# Altium footprint library rcl.PCBLIB: 489 footprints (part 19 of 31)
Each footprint in its own frame and in the unit in brackets; x right, y up, seen from the top. Pads: shape width x height; smd on the part's side, far side on the other; paste and mask are expansions set on the pad; w line width, h text height; cw(c..) or ccw(c..) is an arc to the next point about the centre after c.
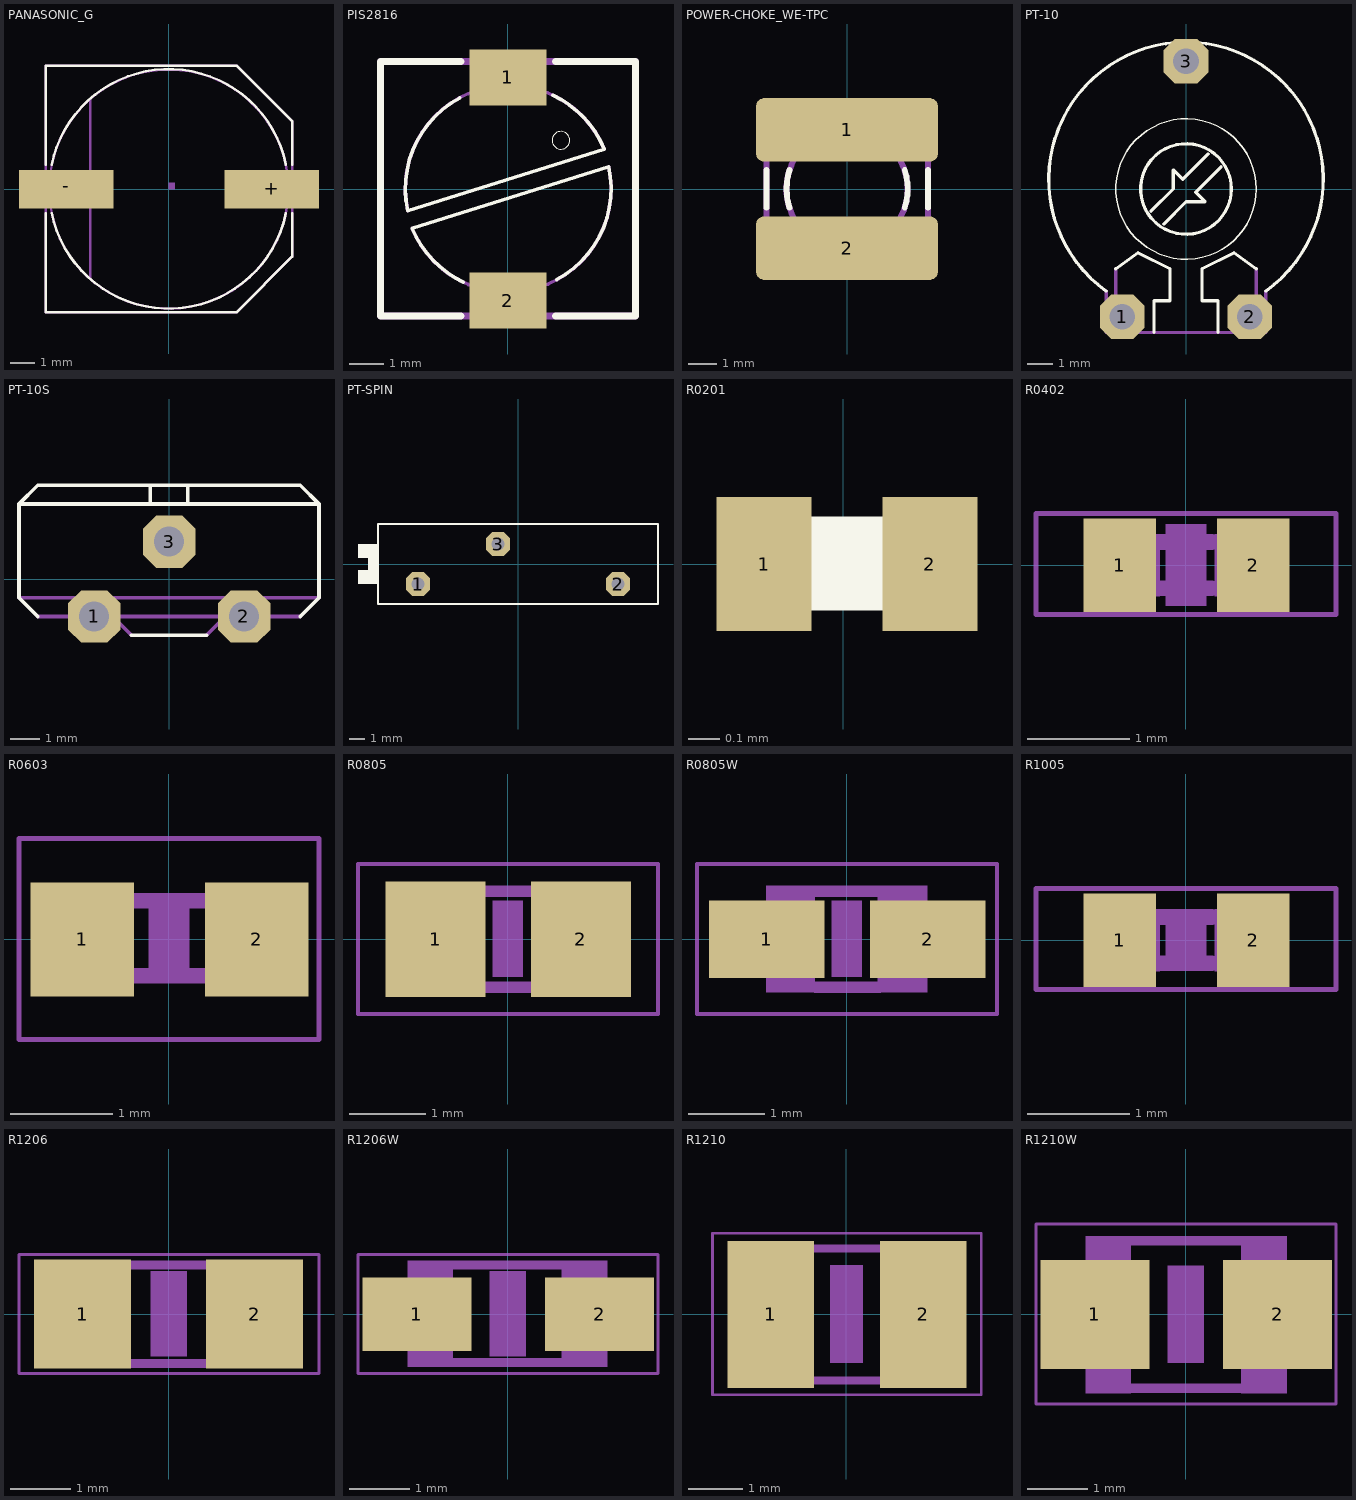
[diagram p18: the footprints below, top view; thin cyan lines are the x and y axes]

## PANASONIC_G [mil]
pads (2):
  rect 154x63 smd: +(168,0) -(-167.32,0)
Top Overlay:
  lines w4: -200.79,-39.37 -200.79,-200.79 111,-200.79 201,-110.24 201,-39.37 ; -200.79,40 -200.79,201 111,201 201,111 201,40 ; -190.94,-39.37 ccw(c0.03,0.01) 191,-39.37 ; -190.94,40 cw(c0.03,0.62) 191,40
Mechanical 16:
  circle w4: c0,0 r195
  rectangle: -230.31,-17.72 -192.91,18
  rectangle: 193,-17.72 231,18
  region: 0,0 10,0 10,10 0,10
  lines w4: -127.95,-143.7 -127.95,146 ; -200.79,-200.79 111,-200.79 201,-110.24 201,111 111,201 -200.79,201 -200.79,-200.79

## PIS2816 [mil]
pads (2):
  rect 87x63 smd: 1(0,126) 2(0,-125.98)
Top Overlay:
  circle w0: c60,55 r10
  lines w4: -54.13,103 ccw(c0.42,0.28) -113.19,-24.61 109,45 ccw(c0.8,0.19) 51,106 ; -50.2,-105.32 cw(c0,0.6) -108.27,-44.29 114,25 cw(c0.58,0.19) 55,-102.36
  lines w8: -53.15,-143.7 -143.7,-143.7 -143.7,144 -53.15,144 ; 54,-143.7 144,-143.7 144,144 54,144
Mechanical 16:
  lines w4: -113.19,-24.61 cw(c1,0.32) 109,45 ; -108.27,-44.29 ccw(c-0.21,0.23) 114,25
  lines w8: -143.7,-143.7 144,-143.7 ; -143.7,144 144,144

## POWER-CHOKE_WE-TPC [mil]
pads (2):
  rrect25% 249x87 smd: 1(0,81) 2(0,-80.71)
Top Overlay:
  lines w8: -110.24,-25.59 -110.24,26 ; -78.74,-25.59 cw(c0.63,0.2) -78.74,26 ; 79,-25.59 ccw(c-0.37,0.2) 79,26 ; 111,-25.59 111,26
Mechanical 16:
  circle w8: c0,0 r83
  lines w8: -110.24,-90.55 ccw(c-90.55,-90.55) -90.55,-110.24 91,-110.24 ccw(c91.16,-90.39) 111,-90.55 111,91 ccw(c91,91) 91,111 -90.55,111 ccw(c-90.39,91.16) -110.24,91 -110.24,-90.55

## PT-10 [mil]
pads (3):
  oct 70x70 hole 40: 1(-100,-200) 2(100,-200) 3(0,200)
Top Overlay:
  circle w5: c0,0 r71
  circle w2: c0,0 r110
  lines w5: -125,-160 cw(c0,15) 125,-160 ; -110,-125 -75,-100 -25,-125 -25,-175 -50,-175 -50,-225 ; -55,-35 -20,0 -20,30 -5,15 35,55 ; -35,-55 0,-20 30,-20 15,-5 55,35 ; 50,-225 50,-175 25,-175 25,-125 75,-100 110,-125
Mechanical 16:
  lines w5: -125,-160 -125,-225 125,-225 125,-160 ; -110,-225 -110,-125 ; 110,-225 110,-125

## PT-10S [mil]
pads (3):
  oct 70x70 hole 40: 1(-100,-50) 2(100,-50) 3(0,50)
Top Overlay:
  lines w5: -175,-50 -200,-25 -200,100 ; -50,-75 50,-75 ; -25,100 -25,125 ; 25,100 25,125 ; 175,-50 200,-25 200,100 ; -200,100 -175,125 175,125 200,100 ; -200,100 200,100
Mechanical 16:
  lines w5: -200,-25 200,-25 ; -175,-50 175,-50 ; -75,-50 -50,-75 ; 50,-75 75,-50

## PT-SPIN [mil]
pads (3):
  oct 60x60 hole 32: 1(-250,-50) 2(250,-50) 3(-50,50)
Top Overlay:
  rectangle: -375,-50 -350,50
  rectangle: -400,15 -375,50
  rectangle: -400,-50 -375,-15
  lines w5: -350,-100 350,-100 350,100 -350,100 -350,-100

## R0201 [mil]
pads (2):
  rect 12x17 smd: 1(-10.04,0) 2(11,0)
Top Overlay:
  rectangle: -5.91,-5.91 6,6
Mechanical 16:
  rectangle: -11.81,-5.91 -5.91,6
  rectangle: 6,-5.91 12,6

## R0402 [mil]
pads (2):
  rect 28x36 smd: 1(-25.59,0) 2(26,0)
Mechanical 6:
  rectangle: -7.87,-15.75 8,16
Mechanical 16:
  rectangle: -21.81,-12 -10,12
  rectangle: 11,-12 22,12
  lines w6: -9.65,-8.82 10,-8.82 ; -9.65,9 10,9
Mechanical 27:
  lines w2: -57.99,-19.02 58,-19.02 58,20 -57.99,20 -57.99,-19.02

## R0603 [mil]
pads (2):
  rect 40x44 smd: 1(-33.46,0) 2(34,0)
Mechanical 6:
  rectangle: -7.87,-15.75 8,16
Mechanical 16:
  rectangle: 17,-17 33,17
  rectangle: -33,-17 -17,17
  lines w6: -17.01,-14.02 18,-14.02 ; -17.01,15 18,15
Mechanical 27:
  lines w2: -57.99,-38.7 58,-38.7 58,39 -57.99,39 -57.99,-38.7

## R0805 [mil]
pads (2):
  rect 52x60 smd: 1(-37.4,0) 2(38,0)
Mechanical 6:
  rectangle: -7.87,-19.69 8,20
Mechanical 16:
  rectangle: 16,-27.5 42,28
  rectangle: -42,-27.5 -16.41,28
  lines w6: -16.14,-25 17,-25 ; -16.14,25 17,25
Mechanical 27:
  lines w2: -77.68,-38.7 78,-38.7 78,39 -77.68,39 -77.68,-38.7

## R0805W [mil]
pads (2):
  rect 60x40 smd: 1(-41.44,0) 2(42,0)
Mechanical 6:
  rectangle: -7.87,-19.69 8,20
Mechanical 16:
  rectangle: 16,-27.5 42,28
  rectangle: -42,-27.5 -16.41,28
  lines w6: -16.14,-25 17,-25 ; -16.14,25 17,25
Mechanical 27:
  lines w2: -77.68,-38.7 78,-38.7 78,39 -77.68,39 -77.68,-38.7

## R1005 [mil]
pads (2):
  rect 28x36 smd: 1(-25.59,0) 2(26,0)
Mechanical 6:
  rectangle: -7.87,-11.81 8,12
Mechanical 16:
  rectangle: -21.81,-12 -10,12
  rectangle: 11,-12 22,12
  lines w6: -9.65,-8.82 10,-8.82 ; -9.65,9 10,9
Mechanical 27:
  lines w2: -57.99,-19.02 58,-19.02 58,20 -57.99,20 -57.99,-19.02

## R1206 [mil]
pads (2):
  rect 63x71 smd: 1(-55.98,0) 2(56,0)
Mechanical 6:
  rectangle: -11.81,-27.56 12,28
Mechanical 16:
  rectangle: -66.5,-34.5 -37.5,35
  rectangle: 38,-34.5 67,35
  lines w6: -38,-32 38,-32 ; -38,32 38,32
Mechanical 27:
  lines w2: -97.36,-38.7 98,-38.7 98,39 -97.36,39 -97.36,-38.7

## R1206W [mil]
pads (2):
  rect 71x48 smd: 1(-59.02,0) 2(60,0)
Mechanical 6:
  rectangle: -11.81,-27.56 12,28
Mechanical 16:
  rectangle: -65,-34.5 -35.47,35
  rectangle: 35,-34.5 65,35
  lines w6: -35.94,-31.5 35,-31.5 ; -35.94,32 35,32
Mechanical 27:
  lines w2: -97.36,-38.7 98,-38.7 98,39 -97.36,39 -97.36,-38.7

## R1210 [mil]
pads (2):
  rect 63x107 smd: 1(-55.12,0) 2(56,0)
Mechanical 6:
  rectangle: -11.81,-35.43 12,36
Mechanical 16:
  rectangle: -65,-51.5 -35.47,51
  rectangle: 36,-51.5 66,51
  lines w6: -35.94,-47.99 37,-47.99 ; -35.94,48 37,48
Mechanical 27:
  lines w2: -97.36,-58.39 98,-58.39 98,59 -97.36,59 -97.36,-58.39

## R1210W [mil]
pads (2):
  rect 71x71 smd: 1(-59.02,0) 2(60,0)
Mechanical 6:
  rectangle: -11.81,-31.5 12,32
Mechanical 16:
  rectangle: -65,-51.5 -35.47,51
  rectangle: 36,-51.5 66,51
  lines w6: -35.94,-47.99 37,-47.99 ; -35.94,48 37,48
Mechanical 27:
  lines w2: -97.36,-58.39 98,-58.39 98,59 -97.36,59 -97.36,-58.39